# EAGLE library part ISD1400S (library IUTV3)
VOICE PLAYBACK DEVICE
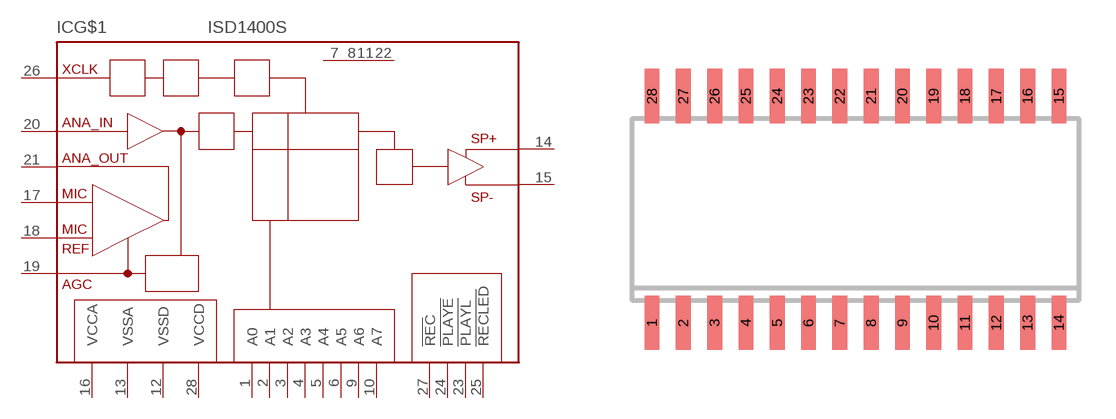
[diagram p6: symbol with the pads of SO28W; footprint SO28W]

Designator prefix IC; gates G$1=ISD1400 G$2=NC G$3=NC G$4=NC G$5=NC

## ISD1400S  [SO28W]
1  G$1:A0  out
2  G$1:A1  out
3  G$1:A2  out
4  G$1:A3  out
5  G$1:A4  out
6  G$1:A5  out
7  G$2:NC  nc
8  G$3:NC  nc
9  G$1:A6  out
10  G$1:A7  out
11  G$4:NC  nc
12  G$1:VSSD  pwr
13  G$1:VSSA  pwr
14  G$1:SP+  out
15  G$1:SP-  out
16  G$1:VCCA  pwr
17  G$1:MIC  in
18  G$1:MIC_REF  in
19  G$1:AGC  pas
20  G$1:ANA_IN  in
21  G$1:ANA_OUT  out
22  G$5:NC  nc
23  G$1:PLAYL  in
24  G$1:PLAYE  in
25  G$1:RECLED  out
26  G$1:XCLK  in
27  G$1:REC  in
28  G$1:VCCD  pwr

## Footprint SO28W (pad centres in mm)
Wide Small Outline Package JEDEC MO-119 AB IPC SO28W
smd 0.6 x 2.2: 1 -8.255,-4.6; 2 -6.985,-4.6; 3 -5.715,-4.6; 4 -4.445,-4.6; 5 -3.175,-4.6; 6 -1.905,-4.6; 7 -0.635,-4.6; 8 0.635,-4.6; 9 1.905,-4.6; 10 3.175,-4.6; 11 4.445,-4.6; 12 5.715,-4.6; 13 6.985,-4.6; 14 8.255,-4.6; 15 8.255,4.6; 16 6.985,4.6; 17 5.715,4.6; 18 4.445,4.6; 19 3.175,4.6; 20 1.905,4.6; 21 0.635,4.6; 22 -0.635,4.6; 23 -1.905,4.6; 24 -3.175,4.6; 25 -4.445,4.6; 26 -5.715,4.6; 27 -6.985,4.6; 28 -8.255,4.6